# EAGLE library part GLENAIR-171-006-6-S-6-7-18 (library space-concordia-power)
GLENAIR-171-006 Series 6 pin sil connector space rated(need reference)
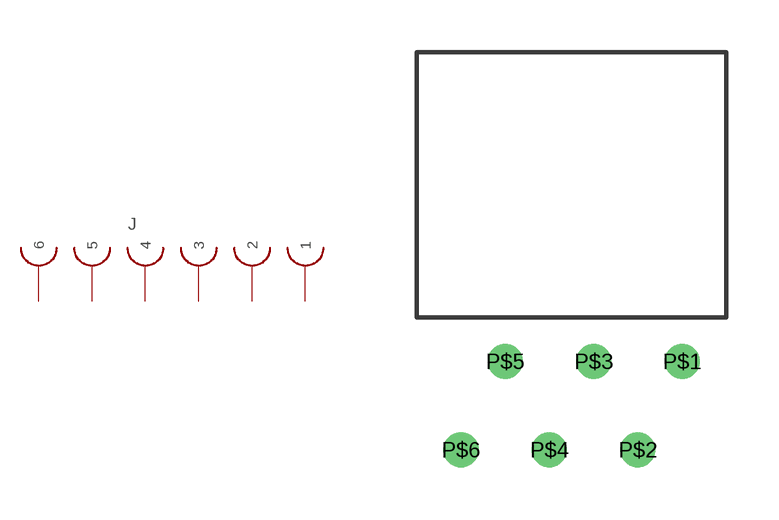
[diagram p7: symbol with the pads of GLENAIR-171-006-6-P-.150-BL; footprint GLENAIR-171-006-6-P-.150-BL]

Designator prefix J

## GLENAIR-171-006-6-S-6-7-18  [GLENAIR-171-006-6-P-.150-BL]
P$1  1
P$2  2
P$3  3
P$4  4
P$5  5
P$6  6

## Footprint GLENAIR-171-006-6-P-.150-BL (pad centres in mm)
GA 171-006-6-S-6-5-7-18-BL GlenAir Pin (female) Space Rated Connector 6-pins Approximate dimensions: 12.7mm x 8.89mm
drill 0.5: P$1 3.175,-2.54; P$2 1.905,-5.08; P$3 0.635,-2.54; P$4 -0.635,-5.08; P$5 -1.905,-2.54; P$6 -3.175,-5.08